# Altium footprint library 海关全向控制器数传转接板.PcbLib: 8 footprints
Each footprint in its own frame and in the unit in brackets; x right, y up, seen from the top. Pads: shape width x height; smd on the part's side, far side on the other; paste and mask are expansions set on the pad; w line width, h text height; cw(c..) or ccw(c..) is an arc to the next point about the centre after c.
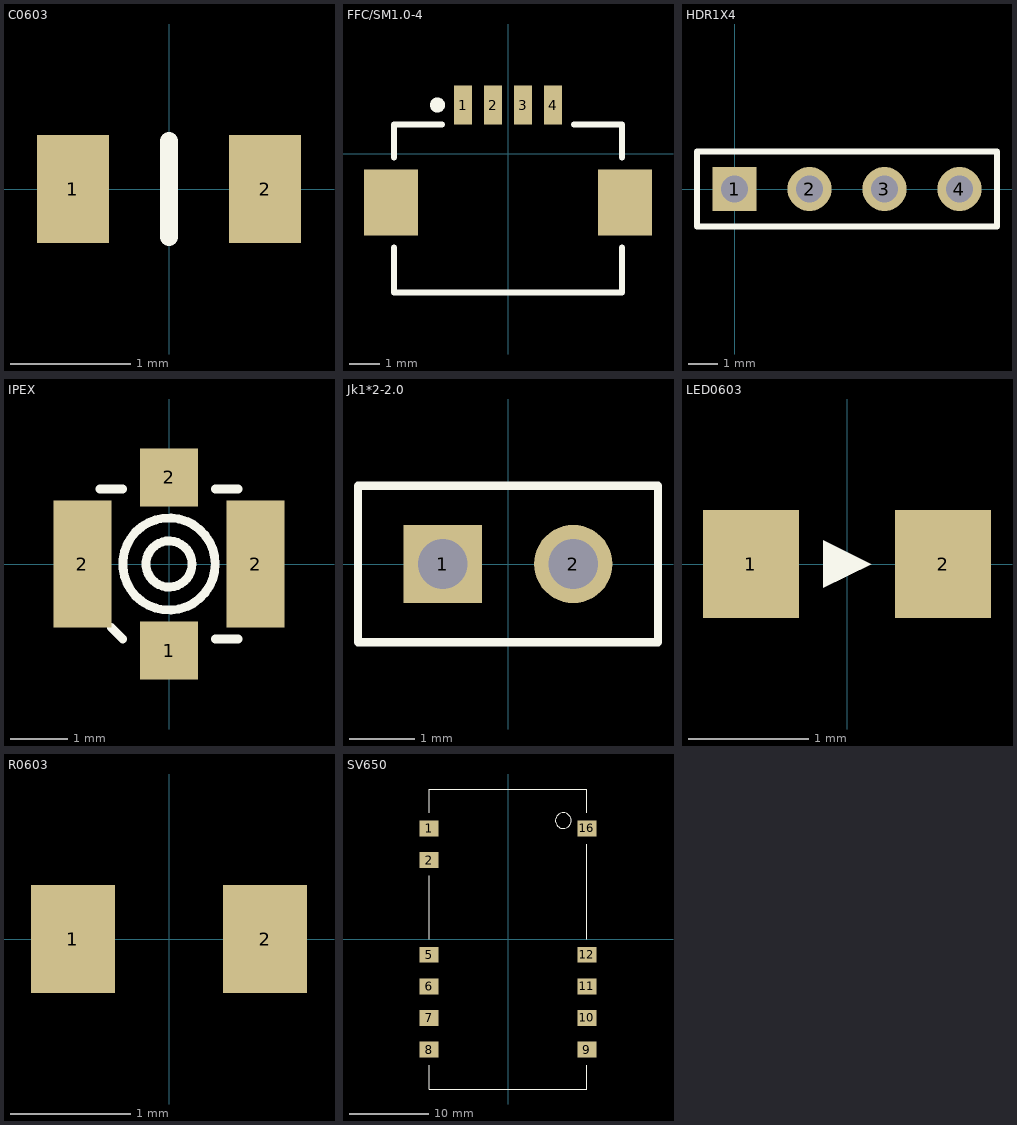
[diagram p0: the footprints below, top view; thin cyan lines are the x and y axes]

## C0603 [mm]
height 0.8
pads (2):
  rect 0.6x0.9 smd: 1(-0.8,0) 2(0.8,0)
Top Overlay:
  lines w0.152: 0,-0.4 0,0.4
3D body: height 0.5, standoff 0, extent -0.8,-0.4 0.8,0.4

## FFC/SM1.0-4 [mm] "Connector; FH12 Series; 4 Position; 1.0mm Spaced Bottom Standard Contact"
height 2
pads (6):
  rect 0.6x1.3 smd: 1(-1.5,1.625) 2(-0.5,1.625) 3(0.5,1.625) 4(1.5,1.625)
  rect 1.8x2.2 smd: ""(-3.9,-1.625) ""(3.9,-1.625)
Top Overlay:
  circle w0.25: c-2.35,1.625 r0.125
  lines w0.2: -3.8,-3.125 -3.8,-4.625 3.8,-4.625 3.8,-3.125 ; -3.8,-0.125 -3.8,0.975 -2.2,0.975 ; 2.2,0.975 3.8,0.975 3.8,-0.125

## HDR1X4 [mm] "Connector; Header; 4 Position"
pads (4):
  rect 1.5x1.5 hole 0.9: 1(0,0)
  round 1.5 hole 0.9: 2(2.54,0) 3(5.08,0) 4(7.62,0)
Top Overlay:
  lines w0.2: -1.27,-1.27 -1.27,1.27 8.89,1.27 8.89,-1.27 -1.27,-1.27

## IPEX [mm]
pads (4):
  rect 1x1 smd: 1(0,-1.5) 2(0,1.5)
  rect 1x2.2 smd: 2(-1.5,0) 2(1.5,0)
Top Overlay:
  circle w0.152: c0,0 r0.8
  circle w0.152: c0,0 r0.4
  lines w0.152: -1.2,1.3 -0.8,1.3 ; -1,-1.1 -0.8,-1.3 ; 0.8,-1.3 1.2,-1.3 ; 0.8,1.3 1.2,1.3
3D body: height 0.9, standoff -0.45, extent -1.45,-1.45 1.45,1.45

## Jk1*2-2.0 [mm] "2P，直插，2.0mm间距，排母"
height 4.3
pads (2):
  rect 1.2x1.2 hole 0.762: 1(-1,0)
  round 1.2 hole 0.762: 2(1,0)
Top Overlay:
  lines w0.127: -2.3,-1.2 2.3,-1.2 2.3,1.2 -2.3,1.2 -2.3,-1.2

## LED0603 [mm]
height 1
pads (2):
  rect 0.8x0.9 smd: 1(-0.8,0) 2(0.8,0)
Top Overlay:
  region: -0.2,0.2 -0.2,-0.2 0.2,0
3D body: height 0.6, standoff 0, extent -0.8,-0.4 0.8,0.4

## R0603 [mm]
height 0.4
pads (2):
  rect 0.7x0.9 smd: 1(-0.8,0) 2(0.8,0)
3D body: height 0.37, standoff 0, extent -0.8,-0.401 0.8,0.401

## SV650 [mm]
height 4
pads (11):
  rect 2.4x2 smd: 1(-10,14) 2(-10,10) 5(-10,-2) 6(-10,-6) 7(-10,-10) 8(-10,-14) 9(10,-14) 10(10,-10) 11(10,-6) 12(10,-2) 16(10,14)
Top Overlay:
  circle w0.152: c7,15 r1
  lines w0.152: -10,-16 -10,-19 10,-19 10,-16 ; -10,0 -10,8 ; -10,16 -10,19 10,19 10,16 ; 10,0 10,12